# EAGLE library part R5460 (library CustomParts)
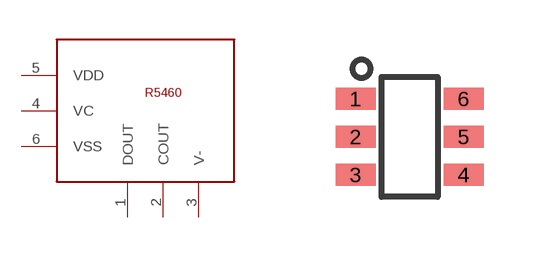
[diagram p2: symbol with the pads of SOT-23-6; footprint SOT-23-6]

Designator prefix -

## R5460  [SOT-23-6]
1  DOUT
2  COUT
3  V-
4  VC
5  VDD
6  VSS

## Footprint SOT-23-6 (pad centres in mm)
smd 1 x 0.55: 1 -1.35,0.95; 2 -1.35,0; 3 -1.35,-0.95; 4 1.35,-0.95; 5 1.35,0; 6 1.35,0.95